# EAGLE library part 68800911622 (library Wurth_Connectors_WR-WTB)
WR-WTB 2.50 mm “J” Type Vertical Male Shrouded Header KIND PROPERTIES: Pitch:2.5 mm Gender:Male MATERIAL PROPERTIES: Insulator Material :PA66 Insulator Flammability Rating:UL94 V-0 Color:White Contact Material:Brass Contact Plating:Tin Contact Type:Stamped GENERAL INFORMATION Operating Temperature:-25up to +85 °C Compliance: RoHS Working Voltage:250 V (AC) Withstanding Voltage:800 V (AC) Contact Resistance:20 mΩ RISO:1000 MΩ CERTIFICATION UL Approval:E323964 PACKAGING PROPERTIES Packaging:Bag <https://katalog.we-online.com/media/images/v2/o33376v209%20Family_WR-WTB_6880xx11622.jpg> Details see: https://katalog.we-online.com/en/em/WTB_2_50_J_TYPE_VERTICAL_MALE_SHROUDED_HEADER_6880XX11622 Updated by Yingchun,Shan 2019-11-05 2019 (C) Würth Elektronik
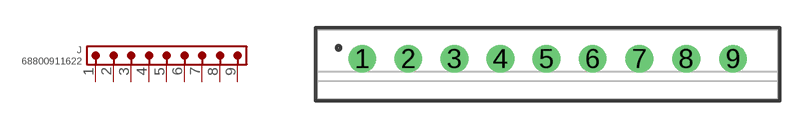
[diagram p103: symbol with the pads of 68800911622; footprint 68800911622]

Designator prefix J

## 68800911622 (CONTACT-RESISTANCE: 20mOhm; DATASHEET-URL: https://www.we-online.com/redexpert/spec/68800911622?ae; GENDER: Male; IR: 3A; L: 25mm; MOUNT: THT; PACKAGING: Bag; PART-NUMBER: 68800911622; PCB-CABLE-PANEL: PCB; PINS: 9; PITCH: 2.5mm; TYPE: Vertical; VALUE: 68800911622; WORKING-VOLTAGE: 250V(AC))  [68800911622]
1  1  pas
2  2  pas
3  3  pas
4  4  pas
5  5  pas
6  6  pas
7  7  pas
8  8  pas
9  9  pas

## Footprint 68800911622 (pad centres in mm)
WR-WTB 2.50 mm “J” Type Vertical Male Shrouded Header, 9 Pins
drill 1: 1 -10.06,0.3; 2 -7.56,0.3; 3 -5.06,0.3; 4 -2.56,0.3; 5 -0.06,0.3; 6 2.44,0.3; 7 4.98,0.3; 8 7.52,0.3; 9 10.06,0.3